# EAGLE library part RC522 (library Diplomarbeit)
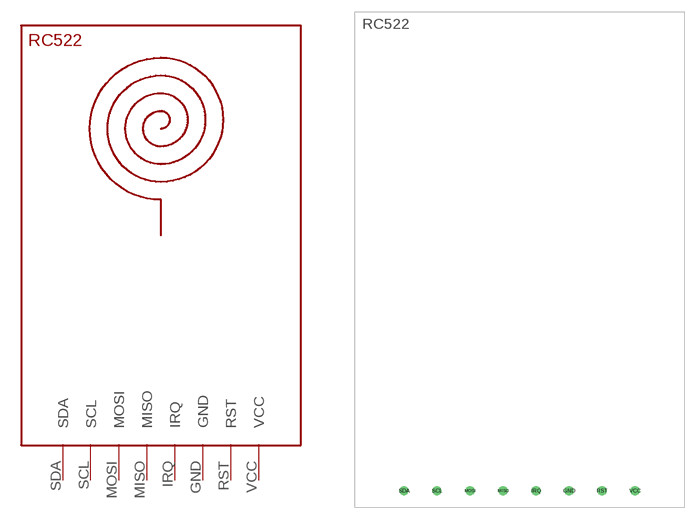
[diagram p7: symbol with the pads of RC522; footprint RC522]

Designator prefix -

## RC522  [RC522]
GND  GND
IRQ  IRQ
MISO  MISO
MOSI  MOSI
RST  RST
SCL  SCL
SDA  SDA
VCC  VCC

## Footprint RC522 (pad centres in mm)
drill 0.6: GND 6,-28; IRQ 2,-28; MISO -2,-28; MOSI -6,-28; RST 10,-28; SCL -10,-28; SDA -14,-28; VCC 14,-28